# Altium footprint library GSM.PCBLIB: 14 footprints
Each footprint in its own frame and in the unit in brackets; x right, y up, seen from the top. Pads: shape width x height; smd on the part's side, far side on the other; paste and mask are expansions set on the pad; w line width, h text height; cw(c..) or ccw(c..) is an arc to the next point about the centre after c.
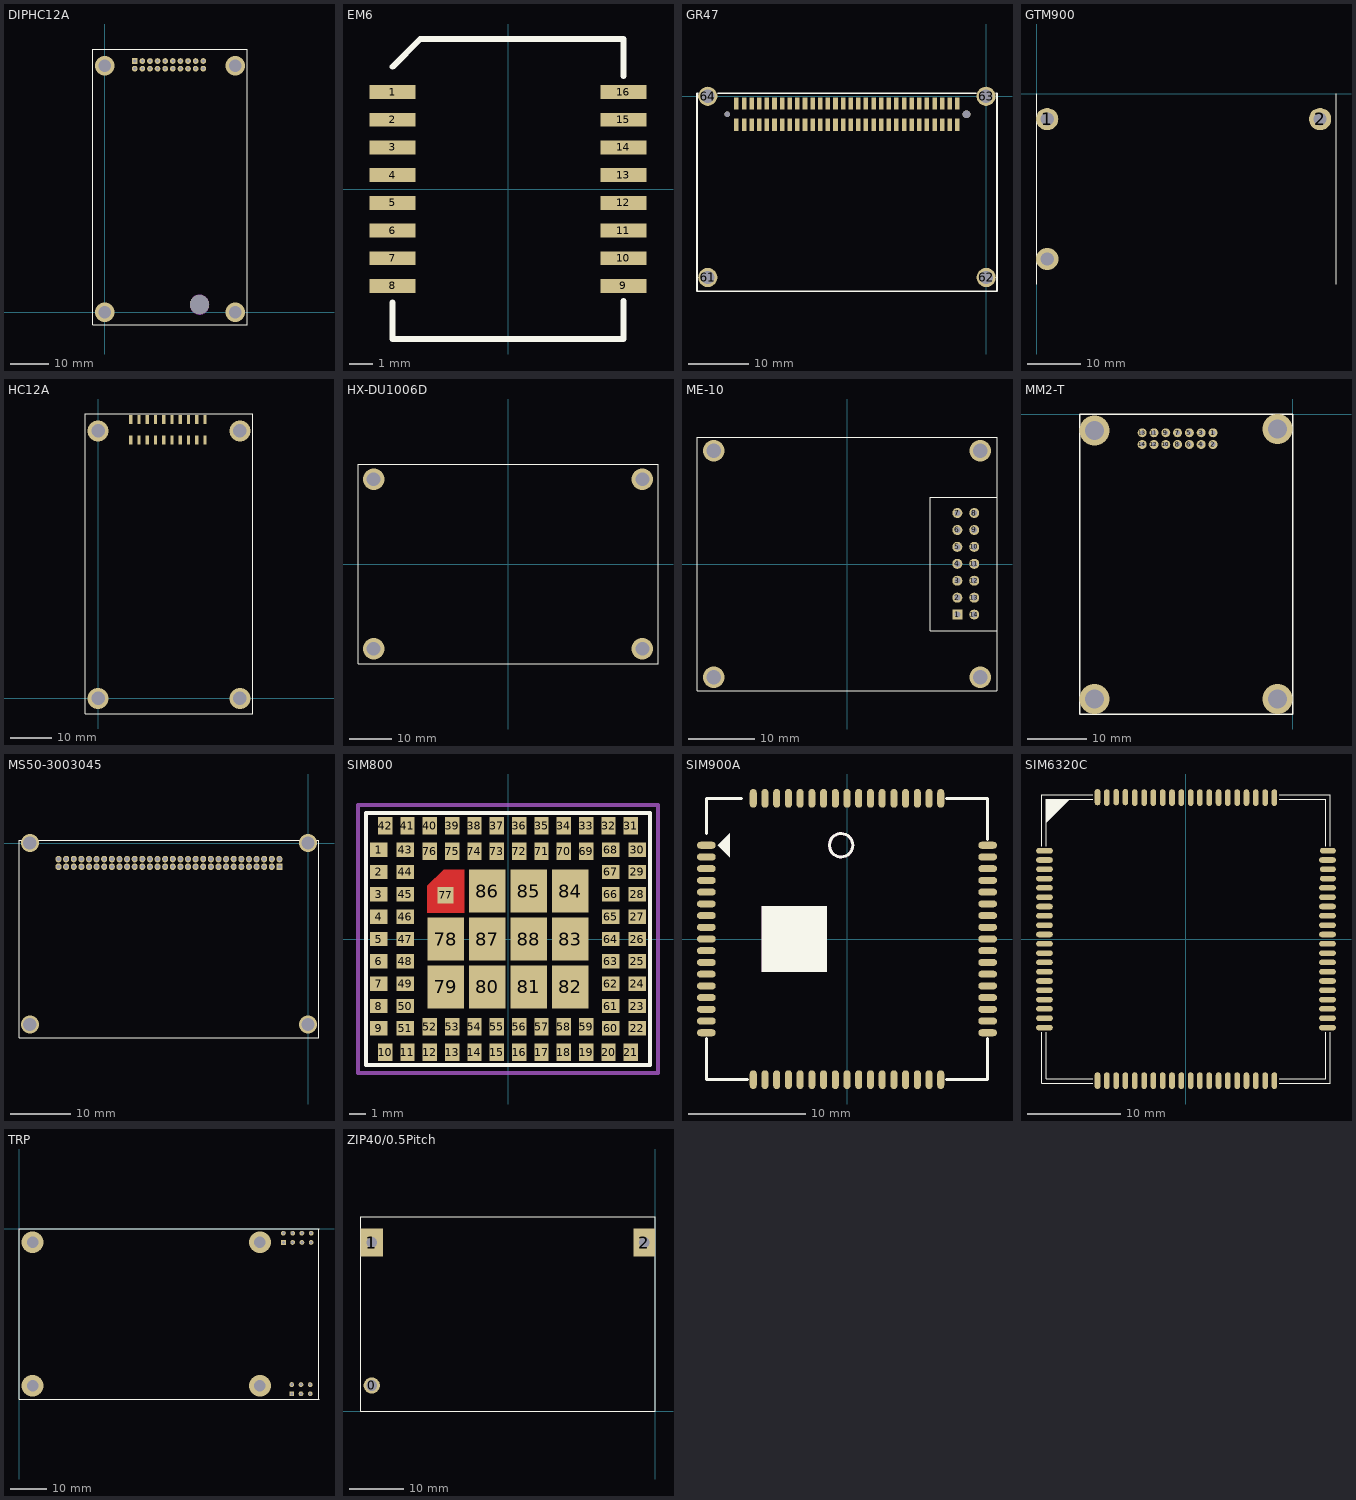
[diagram p0: the footprints below, top view; thin cyan lines are the x and y axes]

## DIPHC12A [mm] "with shield case"
height 10
pads (20):
  rect 1.5x1.5 hole 0.8: 1(7.874,66.015)
  round 1.5 hole 0.8: 2(7.874,64.008) 3(9.874,66.015) 4(9.874,64.008) 5(11.874,66.015) 6(11.874,64.008) 7(13.874,66.015) 8(13.874,64.008) 9(15.874,66.015) 10(15.874,64.008) 11(17.874,66.015) 12(17.874,64.008) 13(19.874,66.015) 14(19.874,64.008) 15(21.874,66.015) 16(21.874,64.008) 17(23.874,66.015) 18(23.874,64.008) 19(25.874,66.015) 20(25.874,64.008)
via 0,64.77 diameter 5.08 hole 3.302
via 34.29,64.77 diameter 5.08 hole 3.302
via 34.29,0 diameter 5.08 hole 3.302
via 0,0 diameter 5.08 hole 3.302
via 24.892,2.032 diameter 5 hole 5
Top Overlay:
  lines w0.152: -3.175,-3.302 -3.175,69.088 37.465,69.088 37.465,-3.302 -3.175,-3.302
Top Solder:
  lines w1.5: -6.126,-1.992 ccw(c-1.126,-1.992) -1.126,-6.992 34.874,-6.992 ccw(c34.874,-1.992) 39.874,-1.992 39.874,66.808 ccw(c34.874,66.808) 34.874,71.808 -1.126,71.808 ccw(c-1.126,66.808) -6.126,66.808 -6.126,-1.992
Mechanical 1:
  circle w0.127: c24.892,2.032 r2.5

## EM6 [mm]
pads (16):
  rect 2x0.6 smd: 1(-5,4.2) 2(-5,3) 3(-5,1.8) 4(-5,0.6) 5(-5,-0.6) 6(-5,-1.8) 7(-5,-3) 8(-5,-4.2) 9(5,-4.2) 10(5,-3) 11(5,-1.8) 12(5,-0.6) 13(5,0.6) 14(5,1.8) 15(5,3) 16(5,4.2)
Top Overlay:
  lines w0.254: -5,-4.924 -5,-6.5 5,-6.5 5,-4.855 ; -5,5.3 -3.8,6.5 5,6.5 5,4.898

## GR47 [mm] "B2B is drew in BB02-CB.WWW.GRADCONN.COM"
pads (64):
  rect 0.76x2.05 smd: 1(-4.78,-4.762) 2(-4.78,-1.212) 3(-6.05,-4.762) 4(-6.05,-1.212) 5(-7.32,-4.762) 6(-7.32,-1.212) 7(-8.59,-4.762) 8(-8.59,-1.212) 9(-9.86,-4.762) 10(-9.86,-1.212) 11(-11.13,-4.762) 12(-11.13,-1.212) 13(-12.4,-4.762) 14(-12.4,-1.212) 15(-13.67,-4.762) 16(-13.67,-1.212) 17(-14.94,-4.762) 18(-14.94,-1.212) 19(-16.21,-4.762) 20(-16.21,-1.212) 21(-17.48,-4.762) 22(-17.48,-1.212) 23(-18.75,-4.762) 24(-18.75,-1.212) 25(-20.02,-4.762) 26(-20.02,-1.212) 27(-21.29,-4.762) 28(-21.29,-1.212) 29(-22.56,-4.762) 30(-22.56,-1.212) 31(-23.83,-4.762) 32(-23.83,-1.212) 33(-25.1,-4.762) 34(-25.1,-1.212) 35(-26.37,-4.762) 36(-26.37,-1.212) 37(-27.64,-4.762) 38(-27.64,-1.212) 39(-28.91,-4.762) 40(-28.91,-1.212) 41(-30.18,-4.762) 42(-30.18,-1.212) 43(-31.45,-4.762) 44(-31.45,-1.212) 45(-32.72,-4.762) 46(-32.72,-1.212) 47(-33.99,-4.762) 48(-33.99,-1.212) 49(-35.26,-4.762) 50(-35.26,-1.212) 51(-36.53,-4.762) 52(-36.53,-1.212) 53(-37.8,-4.762) 54(-37.8,-1.212) 55(-39.07,-4.762) 56(-39.07,-1.212) 57(-40.34,-4.762) 58(-40.34,-1.212) 59(-41.61,-4.762) 60(-41.61,-1.212)
  round 3.2 hole 2.2: 61(-46.379,-30.2) 62(0.021,-30.2) 63(0,0) 64(-46.39,0)
via -43.13,-2.987 diameter 0.9 hole 0.9
via -3.26,-2.987 diameter 1.3 hole 1.3
Top Overlay:
  lines w0.254: -47.976,0.5 -48.179,0.5 -48.179,-32.5 1.821,-32.5 1.821,0.5 1.579,0.5 ; -44.725,0.5 -1.647,0.5

## GTM900 [mm] "FOR GTM900"
height 3
pads (2):
  round 4.2 hole 2.5: 1(2,-4.8) 2(53.5,-4.8)
via 2,-31.192 diameter 4.2 hole 2.5
Top Overlay:
  lines w0.127: 0,-35.992 0,0.008 ; 56.5,-35.992 56.5,0.008

## HC12A [mm]
height 10
pads (20):
  rect 0.8x2.25 smd: 1(7.874,67.483) 2(7.874,62.533) 3(9.874,67.483) 4(9.874,62.533) 5(11.874,67.483) 6(11.874,62.533) 7(13.874,67.483) 8(13.874,62.533) 9(15.874,67.483) 10(15.874,62.533) 11(17.874,67.483) 12(17.874,62.533) 13(19.874,67.483) 14(19.874,62.533) 15(21.874,67.483) 16(21.874,62.533) 17(23.874,67.483) 18(23.874,62.533) 19(25.874,67.483) 20(25.874,62.533)
via 0,0 diameter 5.08 hole 3.302
via 34.29,0 diameter 5.08 hole 3.302
via 34.29,64.77 diameter 5.08 hole 3.302
via 0,64.77 diameter 5.08 hole 3.302
Top Overlay:
  lines w0.152: -3.175,-3.81 37.465,-3.81 37.465,68.834 -3.175,68.834 -3.175,-3.81

## HX-DU1006D [mm]
height 5
via -31.37,-19.75 diameter 5 hole 3.2
via -31.37,19.75 diameter 5 hole 3.2
via 31.37,19.75 diameter 5 hole 3.2
via 31.37,-19.75 diameter 5 hole 3.2
Top Overlay:
  lines w0.102: -35,-23.3 35,-23.3 35,23.3 -35,23.3 -35,-23.3

## ME-10 [mm] "惯导"
height 13
pads (14):
  rect 1.5x1.5 hole 0.9: 1(16.55,-7.59)
  round 1.5 hole 0.9: 2(16.55,-5.05) 3(16.55,-2.51) 4(16.55,0.03) 5(16.55,2.57) 6(16.55,5.11) 7(16.55,7.65) 8(19.09,7.65) 9(19.09,5.11) 10(19.09,2.57) 11(19.09,0.03) 12(19.09,-2.51) 13(19.09,-5.05) 14(19.09,-7.59)
via -20,17 diameter 3.2 hole 2.2
via 20,17 diameter 3.2 hole 2.2
via -20,-17 diameter 3.2 hole 2.2
via 20,-17 diameter 3.2 hole 2.2
Top Overlay:
  lines w0.102: -22.504,-18.999 -22.504,18.999 ; -22.5,-19 22.5,-19 ; -22.5,19 22.5,19 ; 22.5,-10 12.5,-10 12.5,10 22.5,10 ; 22.504,-18.999 22.504,18.999

## MM2-T [mil]
height 412
pads (14):
  round 60 hole 30: 1(-530,-125) 2(-530,-203) 3(-608.74,-125) 4(-608.74,-203) 5(-687.48,-125) 6(-687.48,-203) 7(-766.22,-125) 8(-766.22,-203) 9(-844.96,-125) 10(-844.96,-203) 11(-923.7,-125) 12(-923.7,-203) 13(-1002.44,-125) 14(-1002.44,-203)
via -1320,-111 diameter 200 hole 125.98
via -100,-100 diameter 200 hole 125.98
via -1320,-1900 diameter 200 hole 125.98
via -100,-1900 diameter 200 hole 125.98
Top Overlay:
  lines w10: -1420,-2000 -1420,0 0,0 0,-2000 -1420,-2000

## MS50-3003045 [mm]
pads (60):
  rect 1x1.1 hole 0.65: 1(-4.78,-3.95)
  oval 1x1.1 hole 0.65: 2(-4.78,-2.68) 3(-6.05,-3.95) 4(-6.05,-2.68) 5(-7.32,-3.95) 6(-7.32,-2.68) 7(-8.59,-3.95) 8(-8.59,-2.68) 9(-9.86,-3.95) 10(-9.86,-2.68) 11(-11.13,-3.95) 12(-11.13,-2.68) 13(-12.4,-3.95) 14(-12.4,-2.68) 15(-13.67,-3.95) 16(-13.67,-2.68) 17(-14.94,-3.95) 18(-14.94,-2.68) 19(-16.21,-3.95) 20(-16.21,-2.68) 21(-17.48,-3.95) 22(-17.48,-2.68) 23(-18.75,-3.95) 24(-18.75,-2.68) 25(-20.02,-3.95) 26(-20.02,-2.68) 27(-21.29,-3.95) 28(-21.29,-2.68) 29(-22.56,-3.95) 30(-22.56,-2.68) 31(-23.83,-3.95) 32(-23.83,-2.68) 33(-25.1,-3.95) 34(-25.1,-2.68) 35(-26.37,-3.95) 36(-26.37,-2.68) 37(-27.64,-3.95) 38(-27.64,-2.68) 39(-28.91,-3.95) 40(-28.91,-2.68) 41(-30.18,-3.95) 42(-30.18,-2.68) 43(-31.45,-3.95) 44(-31.45,-2.68) 45(-32.72,-3.95) 46(-32.72,-2.68) 47(-33.99,-3.95) 48(-33.99,-2.68) 49(-35.26,-3.95) 50(-35.26,-2.68) 51(-36.53,-3.95) 52(-36.53,-2.68) 53(-37.8,-3.95) 54(-37.8,-2.68) 55(-39.07,-3.95) 56(-39.07,-2.68) 57(-40.34,-3.95) 58(-40.34,-2.68) 59(-41.61,-3.95) 60(-41.61,-2.68)
via -46.4,0 diameter 3 hole 2.2
via 0,0 diameter 3 hole 2.2
via -46.4,-30.28 diameter 3 hole 2.2
via 0,-30.28 diameter 3 hole 2.2
Top Overlay:
  lines w0.127: -48.2,-32.5 1.821,-32.5 1.821,0.5 -48.2,0.5 -48.2,-32.5

## SIM800 [mm]
height 2.4
pads (88):
  rect 1.1x0.9 smd: 1(-8.1,5.6) 2(-8.1,4.2) 3(-8.1,2.8) 4(-8.1,1.4) 5(-8.1,0) 6(-8.1,-1.4) 7(-8.1,-2.8) 8(-8.1,-4.2) 9(-8.1,-5.6) 22(8.1,-5.6) 23(8.1,-4.2) 24(8.1,-2.8) 25(8.1,-1.4) 26(8.1,0) 27(8.1,1.4) 28(8.1,2.8) 29(8.1,4.2) 30(8.1,5.6) 43(-6.45,5.6) 44(-6.45,4.2) 45(-6.45,2.8) 46(-6.45,1.4) 47(-6.45,0) 48(-6.45,-1.4) 49(-6.45,-2.8) 50(-6.45,-4.2) 51(-6.45,-5.6) 60(6.45,-5.6) 61(6.45,-4.2) 62(6.45,-2.8) 63(6.45,-1.4) 64(6.45,0) 65(6.45,1.4) 66(6.45,2.8) 67(6.45,4.2) 68(6.45,5.6)
  rect 0.9x1.1 smd: 10(-7.7,-7.1) 11(-6.3,-7.1) 12(-4.9,-7.1) 13(-3.5,-7.1) 14(-2.1,-7.1) 15(-0.7,-7.1) 16(0.7,-7.1) 17(2.1,-7.1) 18(3.5,-7.1) 19(4.9,-7.1) 20(6.3,-7.1) 21(7.7,-7.1) 31(7.7,7.1) 32(6.3,7.1) 33(4.9,7.1) 34(3.5,7.1) 35(2.1,7.1) 36(0.7,7.1) 37(-0.7,7.1) 38(-2.1,7.1) 39(-3.5,7.1) 40(-4.9,7.1) 41(-6.3,7.1) 42(-7.7,7.1) 52(-4.9,-5.5) 53(-3.5,-5.5) 54(-2.1,-5.5) 55(-0.7,-5.5) 56(0.7,-5.5) 57(2.1,-5.5) 58(3.5,-5.5) 59(4.9,-5.5) 69(4.9,5.5) 70(3.5,5.5) 71(2.1,5.5) 72(0.7,5.5) 73(-0.7,5.5) 74(-2.1,5.5) 75(-3.5,5.5) 76(-4.9,5.5)
  rect 1x1.05 smd: 77(-3.912,2.743)
  rect 2.3x2.7 smd: 78(-3.9,0) 79(-3.9,-3) 80(-1.3,-3) 81(1.3,-3) 82(3.9,-3) 83(3.9,0) 84(3.9,3) 85(1.3,3) 86(-1.3,3) 87(-1.3,0) 88(1.3,0)
Top Layer:
  region: -5.055,3.327 -5.055,1.651 -2.743,1.651 -2.743,4.343 -4.039,4.343
Top Overlay:
  lines w0.254: -8.9,-7.9 8.9,-7.9 ; -8.9,7.9 8.9,7.9 ; -8.89,-7.874 -8.89,7.874 ; 8.89,-7.874 8.89,7.874
Top Solder:
  region: -5.156,1.549 -2.642,1.549 -2.642,4.445 -4.089,4.445 -5.156,3.378
Mechanical 1:
  lines w0.254: -9.4,-8.4 9.4,-8.4 9.4,8.4 -9.4,8.4 -9.4,-8.4
3D body: height 0.8, standoff 0, extent -8.89,-7.874 8.89,7.874
3D body: height 1.6, standoff 0.8, extent -8.636,-7.366 8.382,7.62

## SIM900A [mm] "GSM MODULE"
height 3
pads (68):
  oval 1.6x0.6 smd: 1(-12,8) 2(-12,7) 3(-12,6) 4(-12,5) 5(-12,4) 6(-12,3) 7(-12,2) 8(-12,1) 9(-12,0) 10(-12,-1) 11(-12,-2) 12(-12,-3) 13(-12,-4) 14(-12,-5) 15(-12,-6) 16(-12,-7) 17(-12,-8) 35(12,-8) 36(12,-7) 37(12,-6) 38(12,-5) 39(12,-4) 40(12,-3) 41(12,-2) 42(12,-1) 43(12,0) 44(12,1) 45(12,2) 46(12,3) 47(12,4) 48(12,5) 49(12,6) 50(12,7) 51(12,8)
  oval 0.6x1.6 smd: 18(-8,-12) 19(-7,-12) 20(-6,-12) 21(-5,-12) 22(-4,-12) 23(-3,-12) 24(-2,-12) 25(-1,-12) 26(0,-12) 27(1,-12) 28(2,-12) 29(3,-12) 30(4,-12) 31(5,-12) 32(6,-12) 33(7,-12) 34(8,-12) 52(8,12) 53(7,12) 54(6,12) 55(5,12) 56(4,12) 57(3,12) 58(2,12) 59(1,12) 60(0,12) 61(-1,12) 62(-2,12) 63(-3,12) 64(-4,12) 65(-5,12) 66(-6,12) 67(-7,12) 68(-8,12)
Top Overlay:
  region: -11.016,8 -10,9.016 -10,6.984
  lines w0.254: -12,-8.5 -12,-12 -8.5,-12 ; -12,9 -12,12 -9,12 ; 8.5,-12 12,-12 12,-8.5 ; 8.5,12 12,12 12,8.5
Top Overlay keep-out:
  circle w0.254: c-0.5,8 r1
  rectangle: -7.3,-2.8 -1.7,2.8

## SIM6320C [mm] "CDMA2000"
height 2.9
pads (80):
  oval 1.8x0.6 smd: 1(-15.2,9.5) 2(-15.2,8.5) 3(-15.2,7.5) 4(-15.2,6.5) 5(-15.2,5.5) 6(-15.2,4.5) 7(-15.2,3.5) 8(-15.2,2.5) 9(-15.2,1.5) 10(-15.2,0.5) 11(-15.2,-0.5) 12(-15.2,-1.5) 13(-15.2,-2.5) 14(-15.2,-3.5) 15(-15.2,-4.5) 16(-15.2,-5.5) 17(-15.2,-6.5) 18(-15.2,-7.5) 19(-15.2,-8.5) 20(-15.2,-9.5) 41(15.2,-9.5) 42(15.2,-8.5) 43(15.2,-7.5) 44(15.2,-6.5) 45(15.2,-5.5) 46(15.2,-4.5) 47(15.2,-3.5) 48(15.2,-2.5) 49(15.2,-1.5) 50(15.2,-0.5) 51(15.2,0.5) 52(15.2,1.5) 53(15.2,2.5) 54(15.2,3.5) 55(15.2,4.5) 56(15.2,5.5) 59(15.2,8.5)
  oval 0.6x1.8 smd: 21(-9.5,-15.2) 22(-8.5,-15.2) 23(-7.5,-15.2) 24(-6.5,-15.2) 25(-5.5,-15.2) 26(-4.5,-15.2) 27(-3.5,-15.2) 28(-2.5,-15.2) 29(-1.5,-15.2) 30(-0.5,-15.2) 31(0.5,-15.2) 32(1.5,-15.2) 33(2.5,-15.2) 34(3.5,-15.2) 35(4.5,-15.2) 36(5.5,-15.2) 37(6.5,-15.2) 38(7.5,-15.2) 39(8.5,-15.2) 40(9.5,-15.2) 61(9.5,15.2) 62(8.5,15.2) 63(7.5,15.2) 64(6.5,15.2) 65(5.5,15.2) 66(4.5,15.2) 67(3.5,15.2) 68(2.5,15.2) 69(1.5,15.2) 70(0.5,15.2) 71(-0.5,15.2) 72(-1.5,15.2) 73(-2.5,15.2) 74(-3.5,15.2) 75(-4.5,15.2) 76(-5.5,15.2) 79(-8.5,15.2)
  oval 1.72x0.6 smd: 57(15.25,6.5) 58(15.25,7.5) 60(15.25,9.5)
  oval 0.6x1.75 smd: 77(-6.5,15.25) 78(-7.5,15.25) 80(-9.5,15.25)
Top Overlay:
  region: -15,15 -15,12.5 -12.5,15
  lines w0.102: -15.5,-10 -15.5,-15.5 -10,-15.5 ; -15.5,10 -15.5,15.5 -10,15.5 ; -15,-10 -15,-15 -10,-15 ; -15,10 -15,15 -10,15 ; 10,-15.5 15.5,-15.5 15.5,-10 ; 10,-15 15,-15 15,-10 ; 10,15 15,15 15,10 ; 10,15.5 15.5,15.5 15.5,10
3D body: height 1.2, standoff 0, extent -15.519,-15.545 15.519,15.519
3D body: height 3, standoff 0, extent -15.011,-14.986 15.011,14.986

## TRP [mm]
pads (14):
  rect 1.3x1.3 hole 0.8: 1(75,-45.45) 7(72.72,-3.82)
  round 1.3 hole 0.8: 2(75,-42.91) 3(77.54,-45.45) 4(77.54,-42.91) 5(80.08,-45.45) 6(80.08,-42.91) 8(72.72,-1.28) 9(75.26,-3.82) 10(75.26,-1.28) 11(77.8,-3.82) 12(77.8,-1.28) 13(80.34,-3.82) 14(80.34,-1.28)
via 3.75,-3.75 diameter 6 hole 3.2
via 3.75,-43.25 diameter 6 hole 3.2
via 66.25,-3.75 diameter 6 hole 3.2
via 66.25,-43.25 diameter 6 hole 3.2
Top Overlay:
  lines w0.254: 82.499,-46.99 82.499,0 ; 82.5,-47 0,-47 0,0 82.5,0

## ZIP40/0.5Pitch [mm] "FPC/FFC ZIP LOCK CONNECTOR"
height 2
pads (3):
  round 3 hole 2: 0(-52.5,4.75)
  rect 4.1x5.1 hole 2: 1(-52.5,31.25)
  rect 4x5.1 hole 2: 2(-2,31.25)
Top Overlay:
  lines w0.152: -54.5,0 0,0 0,36 -54.5,36 -54.5,0